# EAGLE library part LM3S5Y36 (library bytewerk-uc)
32-Bit Microcontroller - 1xCAN - 1xUSB 2.0 full speed - 3xUART with IRDA support - 2xI2C - 2xADC - 3x 32-Bit Timer - 2xWatchdog - Battery packed hibernation - multiple oscilator support
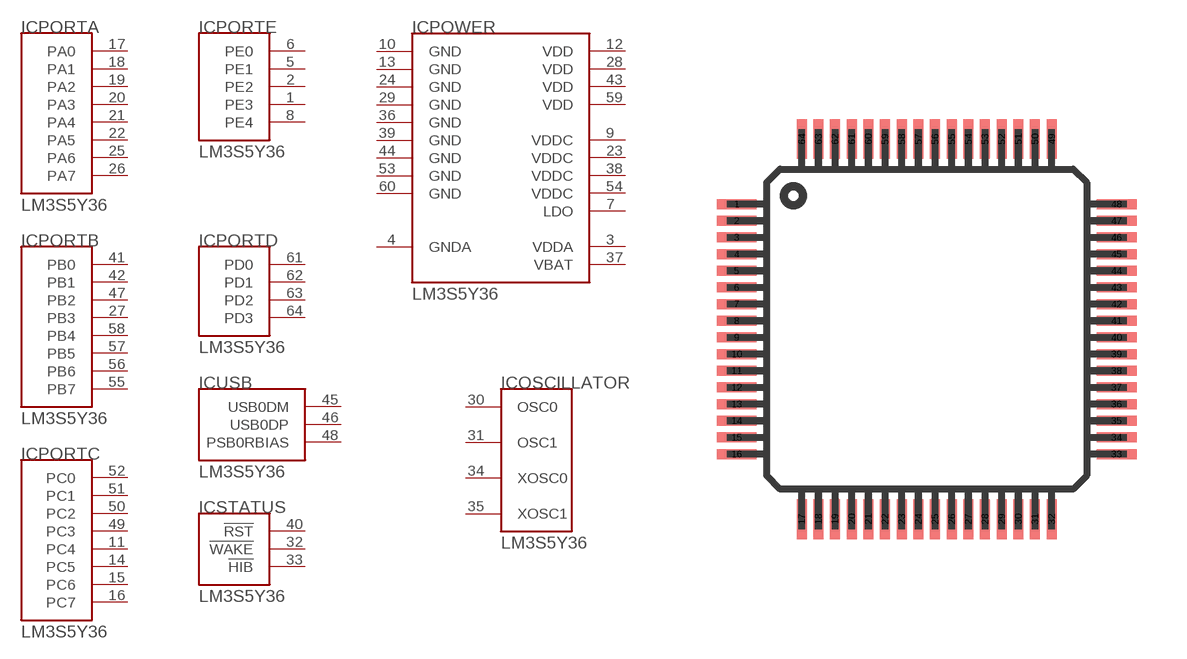
[diagram p7: symbol with the pads of LQFP64; footprint LQFP64]

Designator prefix IC; gates PORTA=LM3S5Y36-PORTA PORTB=LM3S5Y36-PORTB PORTC=LM3S5Y36-PORTC PORTD=LM3S5Y36-PORTD PORTE=LM3S5Y36-PORTE POWER=LM3S5Y36-PWR STATUS=LM3S5Y36-STATUS USB=LM3S5Y36-USB OSCILLATOR=LM3S5Y36-OSC

## LM3S5Y36  [LQFP64]
1  PORTE:PE3
2  PORTE:PE2
3  POWER:VDDA  pwr
4  POWER:GNDA  pwr
5  PORTE:PE1
6  PORTE:PE0
7  POWER:LDO
8  PORTE:PE4
9  POWER:VDDC  pwr
10  POWER:GND  pwr
11  PORTC:PC4
12  POWER:VDD  pwr
13  POWER:GND  pwr
14  PORTC:PC5
15  PORTC:PC6
16  PORTC:PC7
17  PORTA:PA0
18  PORTA:PA1
19  PORTA:PA2
20  PORTA:PA3
21  PORTA:PA4
22  PORTA:PA5
23  POWER:VDDC  pwr
24  POWER:GND  pwr
25  PORTA:PA6
26  PORTA:PA7
27  PORTB:PB3
28  POWER:VDD  pwr
29  POWER:GND  pwr
30  OSCILLATOR:OSC0  in
31  OSCILLATOR:OSC1  out
32  STATUS:!WAKE!  in
33  STATUS:!HIB!  out
34  OSCILLATOR:XOSC0  in
35  OSCILLATOR:XOSC1  out
36  POWER:GND  pwr
37  POWER:VBAT
38  POWER:VDDC  pwr
39  POWER:GND  pwr
40  STATUS:!RST!  in
41  PORTB:PB0
42  PORTB:PB1
43  POWER:VDD  pwr
44  POWER:GND  pwr
45  USB:USB0DM
46  USB:USB0DP
47  PORTB:PB2
48  USB:PSB0RBIAS  pas
49  PORTC:PC3
50  PORTC:PC2
51  PORTC:PC1
52  PORTC:PC0
53  POWER:GND  pwr
54  POWER:VDDC  pwr
55  PORTB:PB7
56  PORTB:PB6
57  PORTB:PB5
58  PORTB:PB4
59  POWER:VDD  pwr
60  POWER:GND  pwr
61  PORTD:PD0
62  PORTD:PD1
63  PORTD:PD2
64  PORTD:PD3

## Footprint LQFP64 (pad centres in mm)
Copied from TQFP64
smd 1.2 x 0.3: 1 -5.7,3.75; 2 -5.7,3.25; 3 -5.7,2.75; 4 -5.7,2.25; 5 -5.7,1.75; 6 -5.7,1.25; 7 -5.7,0.75; 8 -5.7,0.25; 9 -5.7,-0.25; 10 -5.7,-0.75; 11 -5.7,-1.25; 12 -5.7,-1.75; 13 -5.7,-2.25; 14 -5.7,-2.75; 15 -5.7,-3.25; 16 -5.7,-3.75; 33 5.7,-3.75; 34 5.7,-3.25; 35 5.7,-2.75; 36 5.7,-2.25; 37 5.7,-1.75; 38 5.7,-1.25; 39 5.7,-0.75; 40 5.7,-0.25; 41 5.7,0.25; 42 5.7,0.75; 43 5.7,1.25; 44 5.7,1.75; 45 5.7,2.25; 46 5.7,2.75; 47 5.7,3.25; 48 5.7,3.75
smd 0.3 x 1.2: 17 -3.75,-5.7; 18 -3.25,-5.7; 19 -2.75,-5.7; 20 -2.25,-5.7; 21 -1.75,-5.7; 22 -1.25,-5.7; 23 -0.75,-5.7; 24 -0.25,-5.7; 25 0.25,-5.7; 26 0.75,-5.7; 27 1.25,-5.7; 28 1.75,-5.7; 29 2.25,-5.7; 30 2.75,-5.7; 31 3.25,-5.7; 32 3.75,-5.7; 49 3.75,5.7; 50 3.25,5.7; 51 2.75,5.7; 52 2.25,5.7; 53 1.75,5.7; 54 1.25,5.7; 55 0.75,5.7; 56 0.25,5.7; 57 -0.25,5.7; 58 -0.75,5.7; 59 -1.25,5.7; 60 -1.75,5.7; 61 -2.25,5.7; 62 -2.75,5.7; 63 -3.25,5.7; 64 -3.75,5.7